# Altium footprint library CONN ZX80-B-5P.PcbLib: 1 footprints
Each footprint in its own frame and in the unit in brackets; x right, y up, seen from the top. Pads: shape width x height; smd on the part's side, far side on the other; paste and mask are expansions set on the pad; w line width, h text height; cw(c..) or ccw(c..) is an arc to the next point about the centre after c.
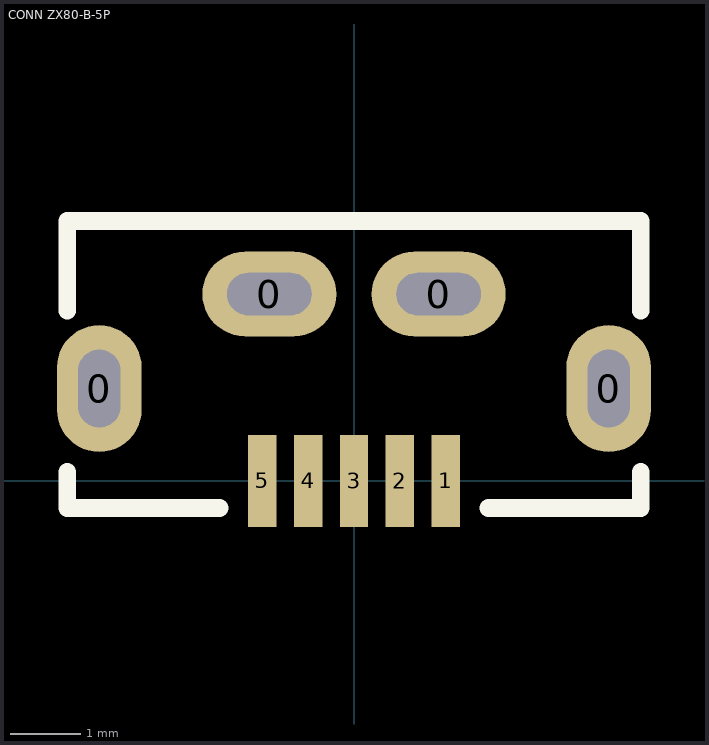
[diagram p0: the footprint, top view; thin cyan lines are the x and y axes]

## CONN ZX80-B-5P [mm]
pads (9):
  oval 1.2x1.8 hole 0.6 slot 1.1 at 90 deg: 0(-3.61,1.31) 0(3.61,1.31)
  oval 1.9x1.2 hole 0.6 slot 1.2 at 0 deg: 0(-1.2,2.65) 0(1.2,2.65)
  rect 0.4x1.3 smd: 1(1.3,0) 2(0.65,0) 3(0,0) 4(-0.65,0) 5(-1.3,0)
Top Overlay:
  lines w0.254: -4.064,0.127 -4.064,-0.381 -1.905,-0.381 ; -4.064,2.413 -4.064,3.683 4.064,3.683 4.064,2.413 ; 1.905,-0.381 4.064,-0.381 4.064,0.127
3D body: height 7.32, standoff -0.68, extent -4.039,-0.381 4.039,3.669